# EAGLE library part 651005136421 (library WR-USB)
WR-COM Mini USB 2.0 Type B Vertical 5 Contacts Kind Properties Durability:1500 Mating cycles Quality Class:1 500 Mating cycles Connector Type:Mini USB Gender:Receptacle Type:Vertical General Information Operating Temperature:-40up to +105 °C Compliance:RoHS Electrical Properties IR:1A Working Voltage:30V (AC) Withstanding Voltage:750V (AC) Contact Resistance:20 mΩ Material Properties Insulator Material LCP Insulator Flammability Rating UL94 V-0 Color Black Cover Material Brass Cover Plating Nickel (Ni) Contact Material Copper Alloy Contact Plating Selective Gold Contact Type Stamped Shielding Material Brass Shielding Plating Nickel (Ni) <https://www.we-online.com/catalog/media/o33001v209%20Family_WR-COM_651005136421.jpg> Details see: https://www.we-online.com/catalog/en/COM_MINI_TYPE_B_VERTICAL/ Updated by Ella Wu 2022-01-17 2022 (C) Würth Elektronik
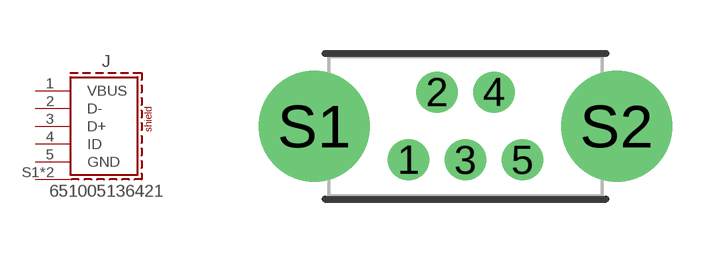
[diagram p13: symbol with the pads of 651005136421; footprint 651005136421]

Designator prefix J

## 651005136421 (APPLICATION: Mini USB; DATASHEET-URL: https://www.we-online.com/redexpert/spec/651005136421?ae; GERDER: Receptacle; INTERFACE-TYPE: Type B; IR: 1.0A; MOUNT: THT; PACKAGING: Tray; PART-NUMBER: 651005136421; PINS: 5; TYPE: Vertical; VALUE: 651005136421; WORKING-VOLTAGE: 30V(AC))  [651005136421]
1  VBUS  pas
2  D-  pas
3  D+  pas
4  ID  pas
5  GND  pas
S1  SHIELD  pas
S2  SHIELD  pas

## Footprint 651005136421 (pad centres in mm)
WR-COM Mini USB 2.0 Type B Vertical 5 Contacts , 5 pins
drill 0.65: 1 -1.6,-0.94; 2 -0.8,0.96; 3 0,-0.94; 4 0.8,0.96; 5 1.6,-0.94
drill 2.1: S1 -4.25,0; S2 4.25,0